# Altium schematic symbol library Sensor_Pressure.SchLib: 20 symbols
Pins are listed as number, name and electrical type; pins without a type are passive.

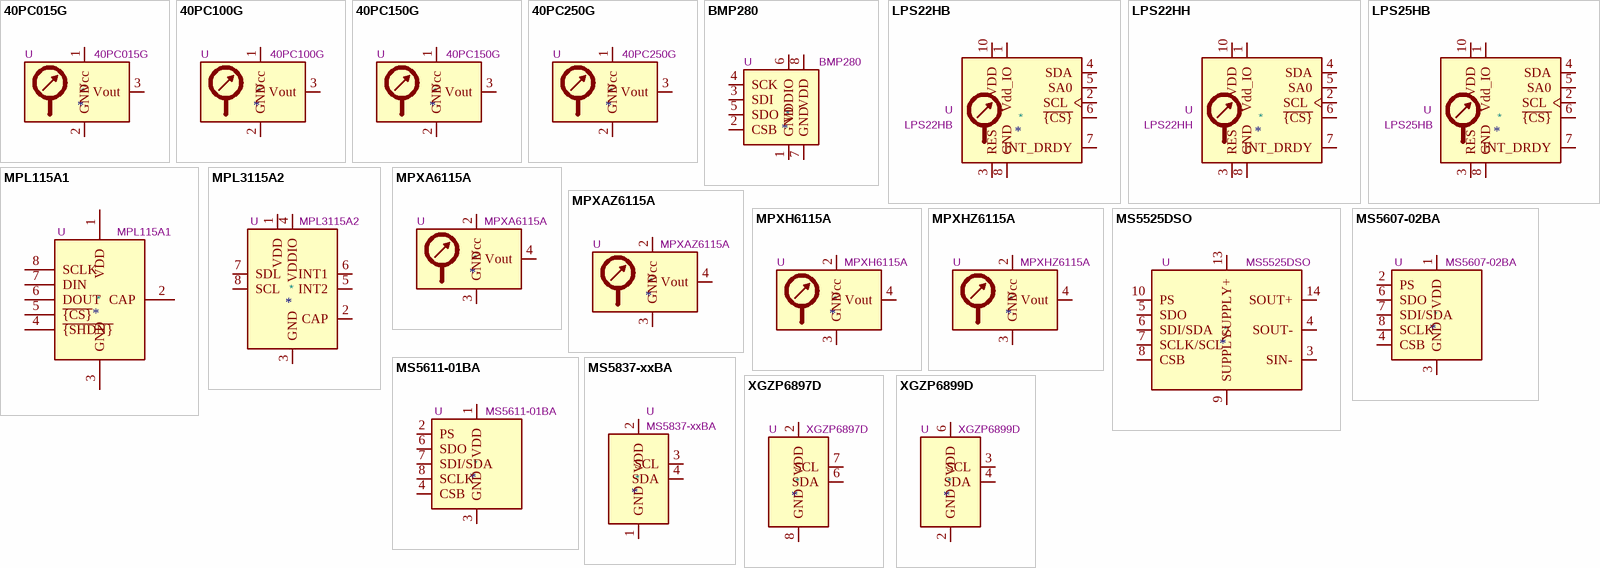
[diagram p0: symbols 40PC015G to XGZP6899D]

## 40PC015G
designator *  value 40PC015G  Reference: U
ki_keywords: gage gauge pressure sensor; ki_description: Gauge pressure sensor, 0 to 15PSI, 5V supply, 0.2% accuracy, integrated signal conditioning, excellent media compatibility; Datasheet: http://www.honeywellscportal.com//index.php?ci_id=138832
pins: 1 Vcc, 2 GND, 3 Vout, 4 NC hidden, 5 NC hidden, 6 NC hidden

## 40PC100G
designator *  value 40PC100G  Reference: U
ki_keywords: gage gauge pressure sensor; ki_description: Gauge pressure sensor, 0 to 100PSI, 5V supply, 0.2% accuracy, integrated signal conditioning, excellent media compatibility; Datasheet: http://www.honeywellscportal.com//index.php?ci_id=138832
pins: 1 Vcc, 2 GND, 3 Vout, 4 NC hidden, 5 NC hidden, 6 NC hidden

## 40PC150G
designator *  value 40PC150G  Reference: U
ki_keywords: gage gauge pressure sensor; ki_description: Gauge pressure sensor, 0 to 150PSI, 5V supply, 0.2% accuracy, integrated signal conditioning, excellent media compatibility; Datasheet: http://www.honeywellscportal.com//index.php?ci_id=138832
pins: 1 Vcc, 2 GND, 3 Vout, 4 NC hidden, 5 NC hidden, 6 NC hidden

## 40PC250G
designator *  value 40PC250G  Reference: U
ki_keywords: gage gauge pressure sensor; ki_description: Gauge pressure sensor, 0 to 250PSI, 5V supply, 0.2% accuracy, integrated signal conditioning, excellent media compatibility; Datasheet: http://www.honeywellscportal.com//index.php?ci_id=138832
pins: 1 Vcc, 2 GND, 3 Vout, 4 NC hidden, 5 NC hidden, 6 NC hidden

## BMP280
designator *  value BMP280  Reference: U
ki_keywords: I2C, SPI, pressure, temperature, sensor; ki_description: Absolute Barometric Pressure Sensor, LGA-8; ki_fp_filters: Bosch*LGA*2x2.5mm*P0.65mm*; Footprint: Package_LGA:Bosch_LGA-8_2x2.5mm_P0.65mm_ClockwisePinNumbering; Datasheet: https://ae-bst.resource.bosch.com/media/_tech/media/datasheets/BST-BMP280-DS001.pdf
pins: 1 GND, 2 CSB, 3 SDI, 4 SCK, 5 SDO, 6 VDDIO, 7 GND, 8 VDD

## LPS22HB
designator *  value LPS22HB  Reference: U
ki_keywords: mems absolute baromeeter spi i2c pressure; ki_description: MEMS nano pressure sensor, 260-1260 hPa, absolute digital output baromeeter, 24 bit, SPI, I2C, 0.0075 hPa noise rms, ST_HLGA-10L; ki_fp_filters: ST?HLGA*2x2mm*P0.5mm*LayoutBorder3x2y*; Footprint: Package_LGA:ST_HLGA-10_2x2mm_P0.5mm_LayoutBorder3x2y; Datasheet: https://www.st.com/resource/en/datasheet/lps22hb.pdf
pins: 1 Vdd_IO, 2 SCL, 3 RES, 4 SDA, 5 SA0, 6 ~{{CS}}, 7 INT_DRDY, 8 GND, 9 GND hidden, 10 VDD

## LPS22HH
designator *  value LPS22HH  Reference: U
ki_keywords: mems absolute baromeeter spi i2c i3c pressure; ki_description: MEMS nano pressure sensor, 260-1260 hPa, absolute digital output baromeeter, 24 bit, SPI, I2C, I3C, 0.65 Pa noise rms, ST_HLGA-10L; ki_fp_filters: ST?HLGA*2x2mm*P0.5mm*LayoutBorder3x2y*; Footprint: Package_LGA:ST_HLGA-10_2x2mm_P0.5mm_LayoutBorder3x2y; Datasheet: https://www.st.com/resource/en/datasheet/lps22hh.pdf
pins: 1 Vdd_IO, 2 SCL, 3 RES, 4 SDA, 5 SA0, 6 ~{{CS}}, 7 INT_DRDY, 8 GND, 9 GND hidden, 10 VDD

## LPS25HB
designator *  value LPS25HB  Reference: U
ki_keywords: mems absolute baromeeter spi i2c pressure; ki_description: MEMS nano pressure sensor, 260-1260 hPa, absolute digital output baromeeter, 24 bit, SPI, I2C, 0.01 hPa noise rms, ST_HLGA-10L; ki_fp_filters: ST?HLGA*2.5x2.5mm*P0.6mm*LayoutBorder3x2y*; Footprint: Package_LGA:ST_HLGA-10_2.5x2.5mm_P0.6mm_LayoutBorder3x2y; Datasheet: https://www.st.com/resource/en/datasheet/lps25hb.pdf
pins: 1 Vdd_IO, 2 SCL, 3 RES, 4 SDA, 5 SA0, 6 ~{{CS}}, 7 INT_DRDY, 8 GND, 9 GND hidden, 10 VDD

## MPL115A1
designator *  value MPL115A1  Reference: U
ki_keywords: spi barometer thermometer mems; ki_description: SPI Digital Barometer; ki_fp_filters: NXP*LGA*3x5mm*P1.25mm*H1.2mm*; Footprint: Package_LGA:NXP_LGA-8_3x5mm_P1.25mm_H1.2mm; Datasheet: https://www.nxp.com/docs/en/data-sheet/MPL115A1.pdf
pins: 1 VDD, 2 CAP, 3 GND, 4 ~{{SHDN}}, 5 ~{{CS}}, 6 DOUT, 7 DIN, 8 SCLK

## MPL3115A2
designator *  value MPL3115A2  Reference: U
ki_keywords: pressure sensor altimetry; ki_description: I2C precision pressure sensor with altimetry, LGA-8; ki_fp_filters: NXP*LGA*3x5mm*P1.25mm*H1.1mm*; Footprint: Package_LGA:NXP_LGA-8_3x5mm_P1.25mm_H1.1mm; Datasheet: https://www.nxp.com/docs/en/data-sheet/MPL3115A2.pdf
pins: 1 VDD, 2 CAP, 3 GND, 4 VDDIO, 5 INT2, 6 INT1, 7 SDL, 8 SCL

## MPXA6115A
designator *  value MPXA6115A  Reference: U
ki_keywords: absolute pressure sensor; ki_description: Absolute pressure sensor, 15 to 115kPa, analog output, integrated signal conditioning, temperature compensated, SO package; Datasheet: https://www.nxp.com/docs/en/data-sheet/MPXA6115A.pdf
pins: 1 NC hidden, 2 Vcc, 3 GND, 4 Vout, 5 NC hidden, 6 NC hidden, 7 NC hidden, 8 NC hidden

## MPXAZ6115A
designator *  value MPXAZ6115A  Reference: U
ki_keywords: absolute pressure sensor; ki_description: Absolute pressure sensor, 15 to 115kPa, analog output, integrated signal conditioning, temperature compensated, media resistant gel, SO package; Datasheet: https://www.nxp.com/docs/en/data-sheet/MPXA6115A.pdf
pins: 1 NC hidden, 2 Vcc, 3 GND, 4 Vout, 5 NC hidden, 6 NC hidden, 7 NC hidden, 8 NC hidden

## MPXH6115A
designator *  value MPXH6115A  Reference: U
ki_keywords: absolute pressure sensor; ki_description: Absolute pressure sensor, 15 to 115kPa, analog output, integrated signal conditioning, temperature compensated, SSO package; Datasheet: https://www.nxp.com/docs/en/data-sheet/MPXA6115A.pdf
pins: 1 NC hidden, 2 Vcc, 3 GND, 4 Vout, 5 NC hidden, 6 NC hidden, 7 NC hidden, 8 NC hidden

## MPXHZ6115A
designator *  value MPXHZ6115A  Reference: U
ki_keywords: absolute pressure sensor; ki_description: Absolute pressure sensor, 15 to 115kPa, analog output, integrated signal conditioning, temperature compensated, media resistant gel, SSO package; Datasheet: https://www.nxp.com/docs/en/data-sheet/MPXA6115A.pdf
pins: 1 NC hidden, 2 Vcc, 3 GND, 4 Vout, 5 NC hidden, 6 NC hidden, 7 NC hidden, 8 NC hidden

## MS5525DSO
designator *  value MS5525DSO  Reference: U
ki_keywords: 24bit low-power I2C SPI; ki_description: Integrated Digital Pressure Sensor; ki_fp_filters: TE?MS5525DSO*DB* TE?MS5525DSO*SB* TE?MS5525DSO*ST* TE?MS5525DSO*DH* TE?MS5525DSO*FT* TE?MS5525DSO*FB*; Datasheet: https://www.te.com/commerce/DocumentDelivery/DDEController?Action=srchrtrv&DocNm=MS5525DSO&DocType=DS&DocLang=English
pins: 1 SIN- hidden, 2 SOUT- hidden, 3 SIN-, 4 SOUT-, 5 SDO, 6 SDI/SDA, 7 SCLK/SCL, 8 CSB, 9 SUPPLY-, 10 PS, 11 SUPPLY+ hidden, 12 SOUT+ hidden, 13 SUPPLY+, 14 SOUT+

## MS5607-02BA
designator *  value MS5607-02BA  Reference: U
ki_keywords: pressure SPI I2C; ki_description: Barometric pressure sensor, 20cm resolution, 10 to 1200 mbar, I2C and SPI interface up to 20MHz, LGA-8; ki_fp_filters: LGA*3x5mm*P1.25mm*; Footprint: Package_LGA:LGA-8_3x5mm_P1.25mm; Datasheet: https://www.te.com/commerce/DocumentDelivery/DDEController?Action=showdoc&DocId=Data+Sheet%7FMS5607-02BA03%7FB2%7Fpdf%7FEnglish%7FENG_DS_MS5607-02BA03_B2.pdf%7FCAT-BLPS0035
pins: 1 VDD, 2 PS, 3 GND, 4 CSB, 5 CSB hidden, 6 SDO, 7 SDI/SDA, 8 SCLK

## MS5611-01BA
designator *  value MS5611-01BA  Reference: U
ki_keywords: pressure SPI I2C; ki_description: Barometric pressure sensor, 10cm resolution, 10 to 1200 mbar, I2C and SPI interface up to 20MHz, LGA-8; ki_fp_filters: LGA*3x5mm*P1.25mm*; Footprint: Package_LGA:LGA-8_3x5mm_P1.25mm; Datasheet: https://www.te.com/commerce/DocumentDelivery/DDEController?Action=srchrtrv&DocNm=MS5611-01BA03&DocType=Data+Sheet&DocLang=English
pins: 1 VDD, 2 PS, 3 GND, 4 CSB, 5 CSB hidden, 6 SDO, 7 SDI/SDA, 8 SCLK

## MS5837-xxBA
designator *  value MS5837-xxBA  Reference: U
ki_keywords: pressure sensor; ki_description: Ultra-small, gel-filled, pressure sensor with stainless steel cap; ki_fp_filters: TE_MS5837*BA*; Footprint: Sensor_Pressure:TE_MS5837-xxBA; Datasheet: https://www.te.com/commerce/DocumentDelivery/DDEController?Action=showdoc&DocId=Data+Sheet%7FMS5837-30BA%7FB1%7Fpdf%7FEnglish%7FENG_DS_MS5837-30BA_B1.pdf%7FCAT-BLPS0017
pins: 1 GND, 2 VDD, 3 SCL, 4 SDA

## XGZP6897D
designator *  value XGZP6897D  Reference: U
ki_keywords: differential i2c; ki_description: i2c differential digital, 2.5Vdc-5.5Vdc; ki_fp_filters: *CFSensor?XGZP6897*; Footprint: Sensor_Pressure:CFSensor_XGZP6897x; Datasheet: https://cfsensor.com/wp-content/uploads/2022/11/XGZP6897D-Pressure-Sensor-V2.7.pdf
pins: 1 NC hidden, 2 VDD, 3 NC hidden, 4 NC hidden, 5 NC hidden, 6 SDA, 7 SCL, 8 GND

## XGZP6899D
designator *  value XGZP6899D  Reference: U
ki_keywords: differential i2c; ki_description: i2c differential digital, 2.5Vdc-5.5Vdc; ki_fp_filters: *CFSensor?XGZP6899*; Footprint: Sensor_Pressure:CFSensor_XGZP6899x; Datasheet: https://cfsensor.com/wp-content/uploads/2022/11/XGZP6899D-Pressure-Sensor-V2.8.pdf
pins: 1 NC hidden, 2 GND, 3 SCL, 4 SDA, 5 NC hidden, 6 VDD, 7 NC hidden, 8 NC hidden